# Altium footprint library HDMI.PcbLib: 1 footprints
Each footprint in its own frame and in the unit in brackets; x right, y up, seen from the top. Pads: shape width x height; smd on the part's side, far side on the other; paste and mask are expansions set on the pad; w line width, h text height; cw(c..) or ccw(c..) is an arc to the next point about the centre after c.
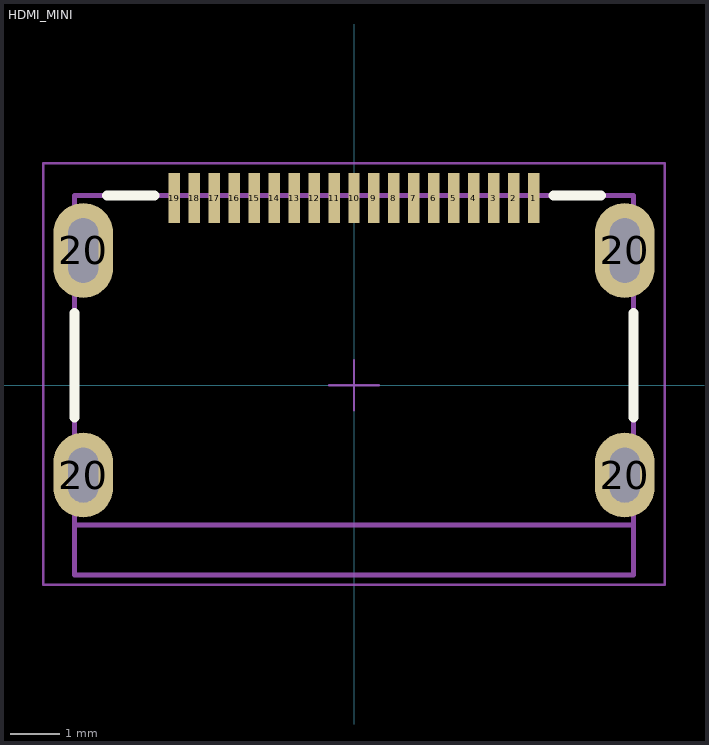
[diagram p0: the footprint, top view; thin cyan lines are the x and y axes]

## HDMI_MINI [mm] "Mini HDMI SMT Horizontal"
height 3.3
pads (23):
  rect 0.23x1 smd: 1(3.6,3.75) 2(3.2,3.75) 3(2.8,3.75) 4(2.4,3.75) 5(2,3.75) 6(1.6,3.75) 7(1.2,3.75) 8(0.8,3.75) 9(0.4,3.75) 10(0,3.75) 11(-0.4,3.75) 12(-0.8,3.75) 13(-1.2,3.75) 14(-1.6,3.75) 15(-2,3.75) 16(-2.4,3.75) 17(-2.8,3.75) 18(-3.2,3.75) 19(-3.6,3.75)
  oval 1.2x1.7 hole 0.6 slot 1.1 at 90 deg: 20(-5.425,-1.8) 20(5.425,-1.8)
  oval 1.2x1.9 hole 0.6 slot 1.3 at 90 deg: 20(-5.425,2.7) 20(5.425,2.7)
Top Overlay:
  lines w0.2: -5.6,-0.65 -5.6,1.45 ; -4.95,3.8 -4,3.8 ; 4,3.8 4.95,3.8 ; 5.6,-0.65 5.6,1.45
Top Courtyard:
  lines w0.05: -6.225,-4 -6.225,4.45 6.225,4.45 6.225,-4 -6.225,-4
Top Designator:
  text ".Designator" at -7.498,-0.5 h1.5
Mechanical 5:
  lines w0.1: -5.6,-2.8 5.6,-2.8
  text "PCB Edge" at -1.831,-3.706 h0.61
Top Component Outline:
  lines w0.1: -5.6,-3.8 -5.6,3.8 5.6,3.8 5.6,-3.8 -5.6,-3.8
Top Component Center:
  lines w0.05: -0.5,0 0.5,0 ; 0,-0.5 0,0.5
3D body "685119136923.stp": height 3.3, standoff -2.15, extent -5.625,-3.8 5.625,4.102